# Altium footprint library flat.PcbLib: 4 footprints
Each footprint in its own frame and in the unit in brackets; x right, y up, seen from the top. Pads: shape width x height; smd on the part's side, far side on the other; paste and mask are expansions set on the pad; w line width, h text height; cw(c..) or ccw(c..) is an arc to the next point about the centre after c.
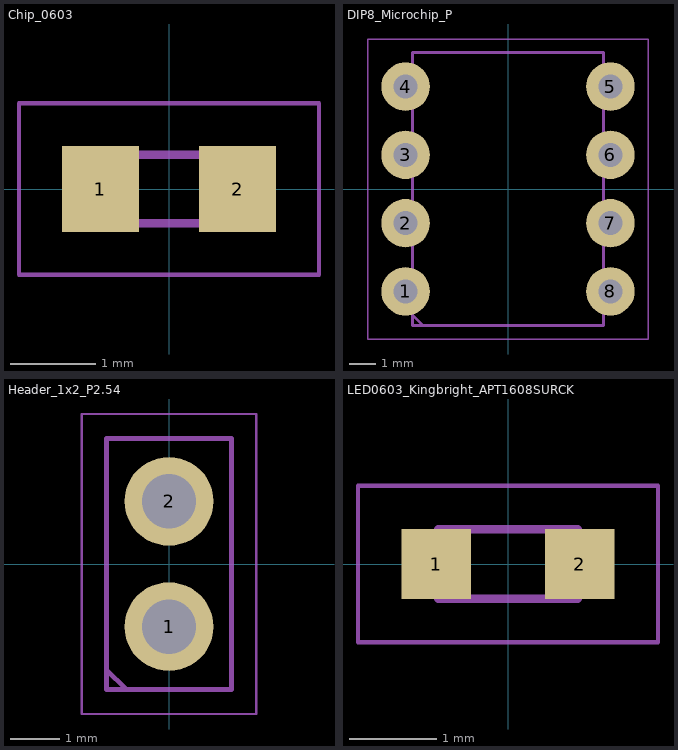
[diagram p0: the footprints below, top view; thin cyan lines are the x and y axes]

## Chip_0603 [mm] "Generic two-terminal 0603 chip land; land pattern remains INFERRED and requires part-specific review"
pads (2):
  rect 0.9x1 smd: 1(-0.8,0) 2(0.8,0)
Mechanical 13:
  lines w0.1: -0.8,-0.4 0.8,-0.4 0.8,0.4 -0.8,0.4 -0.8,-0.4
Mechanical 15:
  lines w0.05: -1.75,-1 1.75,-1 1.75,1 -1.75,1 -1.75,-1

## DIP8_Microchip_P [mm] "8-lead manufacturer body with inferred 7.62 mm through-hole land; land pattern remains INFERRED and requires part-specific review"
pads (8):
  round 1.8 hole 0.9: 1(-3.81,-3.81) 2(-3.81,-1.27) 3(-3.81,1.27) 4(-3.81,3.81) 5(3.81,3.81) 6(3.81,1.27) 7(3.81,-1.27) 8(3.81,-3.81)
Mechanical 13:
  lines w0.1: -3.556,-4.68 -3.156,-5.08 ; -3.556,-5.08 3.556,-5.08 3.556,5.08 -3.556,5.08 -3.556,-5.08
Mechanical 15:
  lines w0.05: -5.21,-5.58 5.21,-5.58 5.21,5.58 -5.21,5.58 -5.21,-5.58

## Header_1x2_P2.54 [mm] "2-position generic 2.54 mm single-row header; land pattern remains INFERRED and requires part-specific review"
pads (2):
  round 1.8 hole 1.1: 1(0,-1.27) 2(0,1.27)
Mechanical 13:
  lines w0.1: -1.27,-2.14 -0.87,-2.54 ; -1.27,-2.54 1.27,-2.54 1.27,2.54 -1.27,2.54 -1.27,-2.54
Mechanical 15:
  lines w0.05: -1.77,-3.04 1.77,-3.04 1.77,3.04 -1.77,3.04 -1.77,-3.04

## LED0603_Kingbright_APT1608SURCK [mm] "Kingbright APT1608SURCK LED suggested land, pin 1 cathode; land pattern remains INFERRED and requires part-specific review"
pads (2):
  rect 0.8x0.8 smd: 1(-0.825,0) 2(0.825,0)
Mechanical 13:
  lines w0.1: -0.6,-0.25 -0.6,0.25 ; -0.8,-0.4 0.8,-0.4 0.8,0.4 -0.8,0.4 -0.8,-0.4
Mechanical 15:
  lines w0.05: -1.725,-0.9 1.725,-0.9 1.725,0.9 -1.725,0.9 -1.725,-0.9